# EAGLE library part LOGIC,BUFFER,BIDIR,1-BIT (library QuantumOptics)
Buffer, Bidirectional, 1-bit such as SN74LVC1T45DBVR.
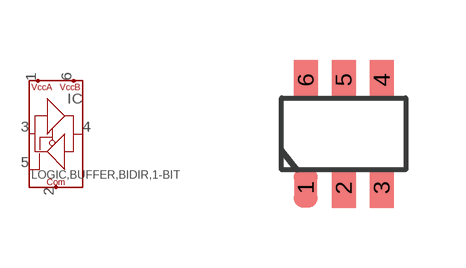
[diagram p180: symbol with the pads of SOT23-6; footprint SOT23-6]

Designator prefix IC

## LOGIC,BUFFER,BIDIR,1-BIT-SOT23-6  [SOT23-6]
1  VCCA
2  COM
3  A
4  B
5  DIR
6  VCCB

## Footprint SOT23-6 (pad centres in mm)
SOT-23 6-pin, on wonderful 0.95mm (~0.037") pad-pad spacing.
smd 0.6 x 1: 1 -0.95,-1.35; 2 0,-1.35; 3 0.95,-1.35; 4 0.95,1.35; 5 0,1.35; 6 -0.95,1.35